# Altium schematic symbol library KF301-2P.SchLib: 1 symbol
Pins are listed as number, name and electrical type; pins without a type are passive.

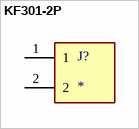
[diagram p0: symbol KF301-2P]

## KF301-2P
designator J?
2 Pin Terminal Block 5mm Pitch; MF: Handson Technology; MP: KF301-2P; SnapEDA_Link: https://www.snapeda.com/parts/KF301-2P/Handson+Technology/view-part/?ref=snap; Package: None; Value: *; Check_prices: https://www.snapeda.com/parts/KF301-2P/Handson+Technology/view-part/?ref=eda
footprint HANDSON_KF301-2P
pins: 1, 2